# EAGLE library part SGTL5000-32 (library Freescale)
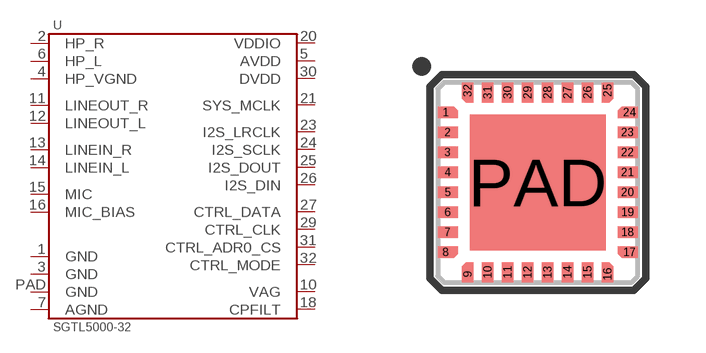
[diagram p4: symbol with the pads of QFN-32-5MM; footprint QFN-32-5MM]

Designator prefix U

## SGTL5000-32  [QFN-32-5MM]
1  GND
2  HP_R
3  GND
4  HP_VGND
5  AVDD
6  HP_L
7  AGND
10  VAG
11  LINEOUT_R
12  LINEOUT_L
13  LINEIN_R
14  LINEIN_L
15  MIC
16  MIC_BIAS
18  CPFILT
20  VDDIO
21  SYS_MCLK
23  I2S_LRCLK
24  I2S_SCLK
25  I2S_DOUT
26  I2S_DIN
27  CTRL_DATA
29  CTRL_CLK
30  DVDD
31  CTRL_ADR0_CS
32  CTRL_MODE
PAD  GND

## Footprint QFN-32-5MM (pad centres in mm)
smd 0.4 x 0.29: 1 -2.3,1.75; 8 -2.3,-1.75; 17 2.3,-1.75; 24 2.3,1.75
smd 0.5 x 0.29: 2 -2.25,1.25; 3 -2.25,0.75; 4 -2.25,0.25; 5 -2.25,-0.25; 6 -2.25,-0.75; 7 -2.25,-1.25; 18 2.25,-1.25; 19 2.25,-0.75; 20 2.25,-0.25; 21 2.25,0.25; 22 2.25,0.75; 23 2.25,1.25
smd 0.29 x 0.4: 9 -1.75,-2.3; 16 1.75,-2.3; 25 1.75,2.3; 32 -1.75,2.3
smd 0.29 x 0.5: 10 -1.25,-2.25; 11 -0.75,-2.25; 12 -0.25,-2.25; 13 0.25,-2.25; 14 0.75,-2.25; 15 1.25,-2.25; 26 1.25,2.25; 27 0.75,2.25; 28 0.25,2.25; 29 -0.25,2.25; 30 -0.75,2.25; 31 -1.25,2.25
smd 3.4 x 3.4: PAD 0,0